# EAGLE library part DA112S1 (library st-microelectronics)
DIODE ARRAY (ASD)
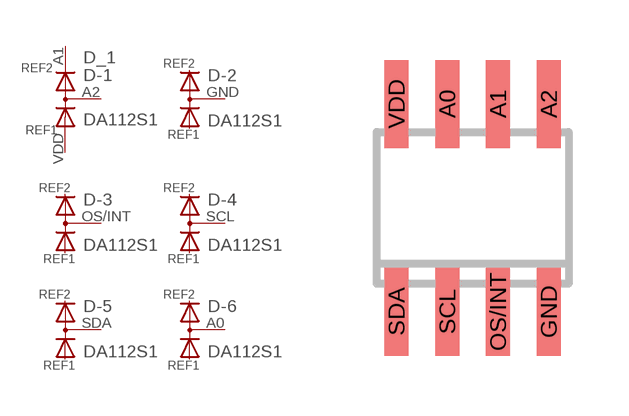
[diagram p4: symbol with the pads of SO08; footprint SO08]

Designator prefix D; gates _1=REF -1=D-1 -2=D-2-1 -3=D-2-1 -4=D-2-1 -5=D-2-1 -6=D-2-1

## DA112S1 (MF: Arrow Electronics; MPN: DA112S1; OC_FARNELL: 9802223; OC_NEWARK: 89K0514)  [SO08]
A0  -6:K  pas
A1  _1:REF2  pas
A2  -1:K  pas
GND  -2:K  pas
OS/INT  -3:K  pas
SCL  -4:K  pas
SDA  -5:K  pas
VDD  _1:REF1  pas

## Footprint SO08 (pad centres in mm)
SMALL OUTLINE INTEGRATED CIRCUIT body 3.9 mm/JEDEC MS-012AA
smd 0.6 x 2.2: A0 -0.635,2.6; A1 0.635,2.6; A2 1.905,2.6; GND 1.905,-2.6; OS/INT 0.635,-2.6; SCL -0.635,-2.6; SDA -1.905,-2.6; VDD -1.905,2.6